# EAGLE library part 7787 (library keystone)
SCREW TERMINAL Keystone #7787 / #8196, 30A, 10-32 Screw
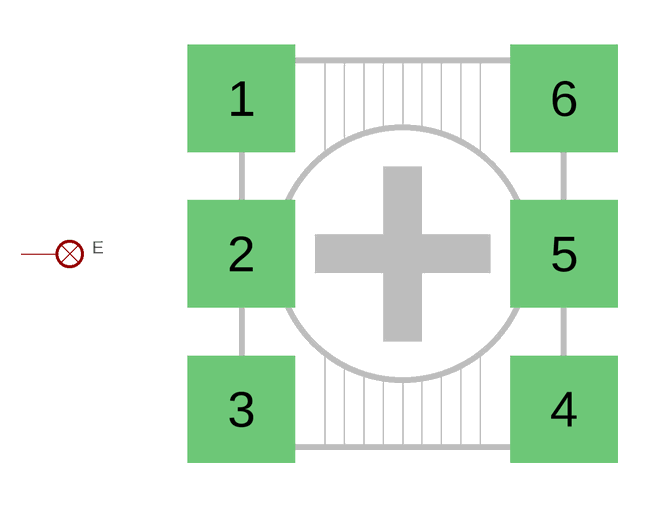
[diagram p0: symbol with the pads of 7787; footprint 7787]

Designator prefix E

## 7787  [7787]
1  1  pas
2  2  pas
3  3  pas
4  4  pas
5  5  pas
6  6  pas

## Footprint 7787 (pad centres in mm)
7787 - Keystone
drill 2.565 square: 1 -5.4,5.2; 2 -5.4,0; 3 -5.4,-5.2; 4 5.4,-5.2; 5 5.4,0; 6 5.4,5.2